# EAGLE library part SN65176B (library Kolja)
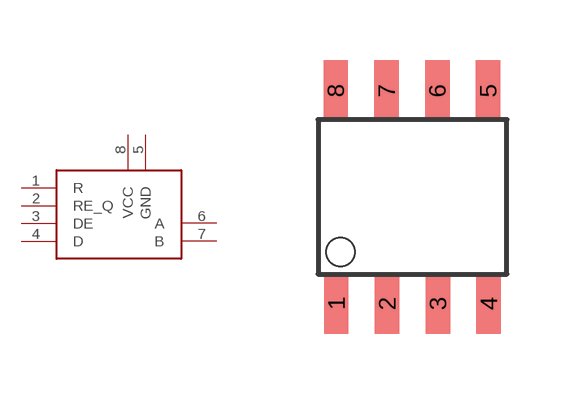
[diagram p0: symbol with the pads of SO8; footprint SO8]

Designator prefix -

## SN65176B  [SO8]
1  R
2  RE_Q
3  DE
4  D
5  GND
6  A
7  B
8  VCC

## Footprint SO8 (pad centres in mm)
smd 0.61 x 1.524: 1 -1.905,-2.661; 2 -0.635,-2.661; 3 0.635,-2.661; 4 1.905,-2.661; 5 1.891,2.661; 6 0.621,2.661; 7 -0.649,2.661; 8 -1.919,2.661